# Altium footprint library Диоды-mm.PcbLib: 56 footprints (part 3 of 4)
Each footprint in its own frame and in the unit in brackets; x right, y up, seen from the top. Pads: shape width x height; smd on the part's side, far side on the other; paste and mask are expansions set on the pad; w line width, h text height; cw(c..) or ccw(c..) is an arc to the next point about the centre after c.
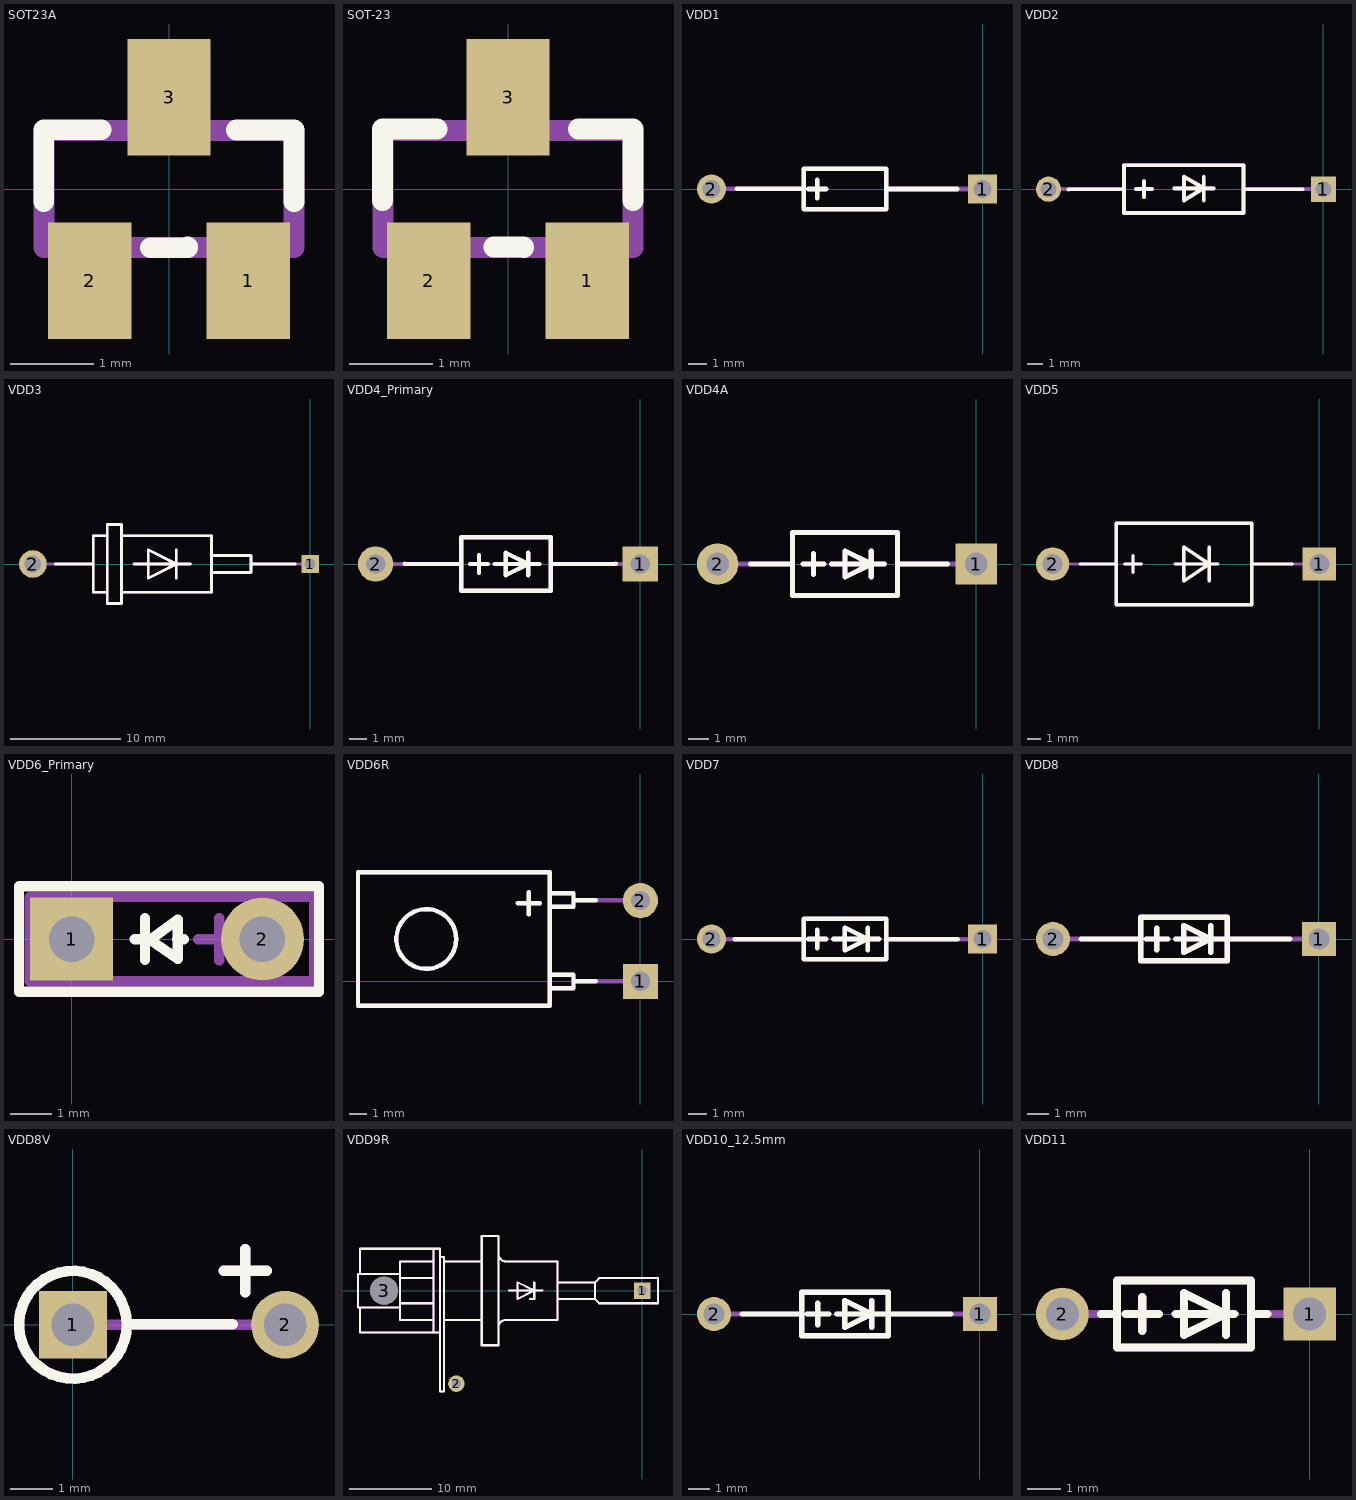
[diagram p2: the footprints below, top view; thin cyan lines are the x and y axes]

## SOT23A [mm]
pads (3):
  rect 1x1.4 smd: 1(0.95,-1.1) 2(-0.95,-1.1) 3(0,1.1)
Top Overlay:
  lines w0.25: -1.503,-0.15 -1.503,0.064 -1.503,0.711 -0.815,0.711 ; -0.222,-0.705 0.223,-0.705 0.223,-0.694 ; 0.81,0.708 1.498,0.708 1.498,0.061 1.498,-0.153
Mechanical 1:
  lines w0.25: -1.5,-0.7 1.5,-0.7 1.5,0.7 -1.5,0.7 -1.5,-0.7

## SOT-23 [mm]
pads (3):
  rect 1x1.4 smd: 1(0.95,-1.1) 2(-0.95,-1.1) 3(0,1.1)
Top Overlay:
  lines w0.25: -1.506,-0.138 -1.506,0.123 -1.506,0.719 -0.853,0.719 ; -0.171,-0.697 0.185,-0.697 0.185,-0.704 ; 0.845,0.719 1.498,0.719 1.498,0.123 1.498,-0.138
Mechanical 1:
  lines w0.25: -1.5,-0.7 1.5,-0.7 1.5,0.7 -1.5,0.7 -1.5,-0.7

## VDD1 [mm]
pads (2):
  rect 1.6x1.6 hole 1: 1(0,0)
  round 1.6 hole 1: 2(-15,0)
Top Overlay:
  lines w0.25: -13.596,0.004 -9.906,0 ; -9.652,0 -8.636,0 ; -9.144,-0.508 -9.144,0.508 ; -5.334,0 -1.396,0 ; -9.906,-1.118 -5.334,-1.118 -5.334,1.118 -9.906,1.118 -9.906,-1.118
Mechanical 1:
  lines w0.25: -14.999,0.004 -9.906,0 ; -9.652,0 -8.636,0 ; -9.144,-0.508 -9.144,0.508 ; -5.334,0 -0.005,0 ; -9.906,-1.118 -5.334,-1.118 -5.334,1.118 -9.906,1.118 -9.906,-1.118

## VDD2 [mm]
pads (2):
  rect 1.6x1.6 hole 1: 1(0,0)
  round 1.6 hole 1: 2(-17.5,0)
Top Overlay:
  lines w0.25: -16.22,-0.01 -12.7,0 ; -11.938,0 -10.922,0 ; -11.43,-0.508 -11.43,0.508 ; -9.495,0.04 -6.995,0.04 ; -7.62,-0.71 -7.62,0.79 ; -5.08,0 -1.335,-0.005 ; -12.7,-1.524 -5.08,-1.524 -5.08,1.524 -12.7,1.524 -12.7,-1.524 ; -8.87,-0.71 -7.62,0.065 -8.87,0.79 -8.87,-0.71
Mechanical 1:
  lines w0.25: -17.495,0.015 -12.7,0.025 ; -11.938,0.025 -10.922,0.025 ; -11.43,-0.483 -11.43,0.533 ; -9.495,0.065 -6.995,0.065 ; -7.62,-0.685 -7.62,0.815 ; -5.08,0.025 0,0.025 ; -12.7,-1.499 -5.08,-1.499 -5.08,1.549 -12.7,1.549 -12.7,-1.499 ; -8.87,-0.685 -7.62,0.09 -8.87,0.815 -8.87,-0.685

## VDD3 [mm]
pads (2):
  rect 1.6x1.6 hole 1: 1(0,0)
  round 2.5 hole 1.5: 2(-25,0)
Top Overlay:
  lines w0.25: -22.979,0 -19.558,0 ; -18.288,-2.54 -19.558,-2.54 -19.558,2.54 -18.288,2.54 ; -17.018,-2.54 -8.89,-2.54 -8.89,2.54 -17.018,2.54 ; -15.875,0 -10.795,0 ; -12.065,-1.27 -12.065,1.27 ; -8.89,-0.762 -5.334,-0.762 -5.334,0.762 -8.89,0.762 ; -5.334,0 -1.337,0 ; -18.288,-3.556 -18.288,3.556 -17.018,3.556 -17.018,-3.556 -18.288,-3.556 ; -14.605,-1.27 -12.065,0 -14.605,1.27 -14.605,-1.27
Mechanical 1:
  lines w0.25: -25.005,0 -19.558,0 ; -18.288,-2.54 -19.558,-2.54 -19.558,2.54 -18.288,2.54 ; -17.018,-2.54 -8.89,-2.54 -8.89,2.54 -17.018,2.54 ; -15.875,0 -10.795,0 ; -12.065,-1.27 -12.065,1.27 ; -8.89,-0.762 -5.334,-0.762 -5.334,0.762 -8.89,0.762 ; -5.334,0 -0.001,0 ; -18.288,-3.556 -18.288,3.556 -17.018,3.556 -17.018,-3.556 -18.288,-3.556 ; -14.605,-1.27 -12.065,0 -14.605,1.27 -14.605,-1.27

## VDD4_Primary [mm]
pads (2):
  rect 2x2 hole 1.1: 1(0,0)
  round 2 hole 1.1: 2(-15,0)
Top Overlay:
  lines w0.25: -13.358,0.005 -10.16,0 ; -9.652,0 -8.636,0 ; -9.144,-0.508 -9.144,0.508 ; -8.255,0 -5.715,0 ; -6.35,-0.635 -6.35,0.635 ; -5.08,0 -1.392,0.005 ; -10.16,-1.524 -5.08,-1.524 -5.08,1.524 -10.16,1.524 -10.16,-1.524 ; -7.62,-0.635 -6.35,0 -7.62,0.635 -7.62,-0.635
Mechanical 1:
  lines w0.25: -15.006,0.001 -10.16,0 ; -9.652,0 -8.636,0 ; -9.144,-0.508 -9.144,0.508 ; -8.255,0 -5.715,0 ; -6.35,-0.635 -6.35,0.635 ; -5.08,0 0,0.005 ; -10.16,-1.524 -5.08,-1.524 -5.08,1.524 -10.16,1.524 -10.16,-1.524 ; -7.62,-0.635 -6.35,0 -7.62,0.635 -7.62,-0.635

## VDD4A [mm]
pads (2):
  rect 2x2 hole 1.1: 1(0,0)
  round 2 hole 1.1: 2(-12.5,0)
Top Overlay:
  lines w0.25: -10.922,0 -8.89,0 ; -8.382,0 -7.366,0 ; -7.874,-0.508 -7.874,0.508 ; -6.985,0 -4.445,0 ; -5.08,-0.635 -5.08,0.635 ; -3.81,0 -1.39,0 ; -8.89,-1.524 -3.81,-1.524 -3.81,1.524 -8.89,1.524 -8.89,-1.524 ; -6.35,-0.635 -5.08,0 -6.35,0.635 -6.35,-0.635
Mechanical 1:
  lines w0.25: -12.501,-0.003 -8.89,0 ; -8.382,0 -7.366,0 ; -7.874,-0.508 -7.874,0.508 ; -6.985,0 -4.445,0 ; -5.08,-0.635 -5.08,0.635 ; -3.81,0 0.002,0 ; -8.89,-1.524 -3.81,-1.524 -3.81,1.524 -8.89,1.524 -8.89,-1.524 ; -6.35,-0.635 -5.08,0 -6.35,0.635 -6.35,-0.635

## VDD5 [mm]
pads (2):
  rect 2.5x2.5 hole 1.5: 1(0,0)
  round 2.5 hole 1.5: 2(-20,0)
Top Overlay:
  lines w0.25: -17.922,0 -15.24,0 ; -14.605,0 -13.335,0 ; -13.97,-0.635 -13.97,0.635 ; -10.795,0 -7.62,0 ; -8.255,-1.27 -8.255,1.27 ; -5.08,0 -2.037,-0.004 ; -15.24,-3.048 -5.08,-3.048 -5.08,3.048 -15.24,3.048 -15.24,-3.048 ; -10.16,-1.27 -8.255,0 -10.16,1.27 -10.16,-1.27
Mechanical 1:
  lines w0.25: -20.006,0 -15.24,0 ; -14.605,0 -13.335,0 ; -13.97,-0.635 -13.97,0.635 ; -10.795,0 -7.62,0 ; -8.255,-1.27 -8.255,1.27 ; -5.08,0 -0.003,0 ; -15.24,-3.048 -5.08,-3.048 -5.08,3.048 -15.24,3.048 -15.24,-3.048 ; -10.16,-1.27 -8.255,0 -10.16,1.27 -10.16,-1.27

## VDD6_Primary [mm]
pads (2):
  rect 2x2 hole 1.1: 1(0,0)
  round 2 hole 1.1: 2(4.6,0)
Top Overlay:
  lines w0.25: 1.517,0.001 1.745,0.001 ; 1.769,-0.493 1.769,0.506 ; 2.549,-0.002 2.703,-0.002 ; -1.27,-1.265 3.725,-1.265 5.964,-1.265 5.964,1.271 -1.27,1.271 -1.27,-1.265 ; 1.893,-0.011 2.554,-0.472 2.554,0.465 1.893,-0.011
Mechanical 1:
  lines w0.25: 3.048,0 4.064,0 ; 3.556,-0.508 3.556,0.508 ; -1.016,-1.016 5.842,-1.016 5.842,1.016 -1.016,1.016 -1.016,-1.016

## VDD6R [mm]
pads (2):
  rect 2x2 hole 1.1: 1(0,0)
  round 2 hole 1.1: 2(0,4.6)
Top Overlay:
  circle w0.25: c-12.192,2.413 r1.702
  lines w0.25: -6.985,4.445 -5.715,4.445 ; -6.35,3.81 -6.35,5.08 ; -5.156,-0.381 -3.81,-0.381 -3.81,0.381 -5.156,0.381 ; -5.156,4.245 -3.81,4.245 -3.81,5.007 -5.156,5.007 ; -3.81,0 -2.54,0 ; -3.81,4.626 -2.54,4.626 ; -16.078,-1.397 -5.156,-1.397 -5.156,6.223 -16.078,6.223 -16.078,-1.397
Mechanical 1:
  circle w0.25: c-12.192,2.413 r1.702
  lines w0.25: -6.985,4.445 -5.715,4.445 ; -6.35,3.81 -6.35,5.08 ; -5.156,-0.381 -3.81,-0.381 -3.81,0.381 -5.156,0.381 ; -5.156,4.245 -3.81,4.245 -3.81,5.007 -5.156,5.007 ; -3.81,0 -2.54,0 -0.7,0 ; -3.81,4.626 -2.54,4.626 ; -2.543,4.623 -0.68,4.63 ; -16.078,-1.397 -5.156,-1.397 -5.156,6.223 -16.078,6.223 -16.078,-1.397

## VDD7 [mm]
pads (2):
  rect 1.6x1.6 hole 1: 1(0,0)
  round 1.6 hole 1: 2(-15,0)
Top Overlay:
  lines w0.25: -13.714,-0.001 -9.906,0 ; -9.652,0 -8.636,0 ; -9.144,-0.508 -9.144,0.508 ; -8.255,0 -5.715,0 ; -6.35,-0.635 -6.35,0.635 ; -5.334,0 -1.361,-0.004 ; -9.906,-1.118 -5.334,-1.118 -5.334,1.118 -9.906,1.118 -9.906,-1.118 ; -7.62,-0.635 -7.62,0.635 -6.35,0 -7.62,-0.635
Mechanical 1:
  lines w0.25: -15.003,-0.004 -9.906,0 ; -9.652,0 -8.636,0 ; -9.144,-0.508 -9.144,0.508 ; -8.255,0 -5.715,0 ; -6.35,-0.635 -6.35,0.635 ; -5.334,0 0,-0.004 ; -9.906,-1.118 -5.334,-1.118 -5.334,1.118 -9.906,1.118 -9.906,-1.118 ; -7.62,-0.635 -7.62,0.635 -6.35,0 -7.62,-0.635

## VDD8 [mm]
pads (2):
  rect 1.6x1.6 hole 1: 1(0,0)
  round 1.6 hole 1: 2(-12.5,0)
Top Overlay:
  lines w0.25: -11.187,0 -8.382,0 ; -8.128,0 -7.112,0 ; -7.62,-0.508 -7.62,0.508 ; -6.731,0 -6.35,0 -4.445,0 ; -5.08,-0.635 -5.08,0.635 ; -4.318,0 -1.371,0 ; -8.382,-1.016 -4.318,-1.016 -4.318,1.016 -8.382,1.016 -8.382,-1.016 ; -6.35,-0.635 -5.08,0 -6.35,0.635 -6.35,-0.635
Mechanical 1:
  lines w0.25: -12.503,0 -8.382,0 ; -8.128,0 -7.112,0 ; -7.62,-0.508 -7.62,0.508 ; -6.731,0 -6.35,0 -4.445,0 ; -5.08,-0.635 -5.08,0.635 ; -4.318,0 0,0.006 ; -8.382,-1.016 -4.318,-1.016 -4.318,1.016 -8.382,1.016 -8.382,-1.016 ; -6.35,-0.635 -5.08,0 -6.35,0.635 -6.35,-0.635

## VDD8V [mm]
pads (2):
  rect 1.6x1.6 hole 1: 1(0,0)
  round 1.6 hole 1: 2(5,0)
Top Overlay:
  circle w0.25: c0,0 r1.27
  lines w0.25: 1.266,0.008 3.761,0.008 ; 3.556,1.27 4.572,1.27 ; 4.064,0.762 4.064,1.778
Mechanical 1:
  circle w0.25: c0,0 r1.27
  lines w0.25: 0,0 4.5,0 ; 3.556,1.27 4.572,1.27 ; 4.064,0.762 4.064,1.778

## VDD9R [mm]
pads (3):
  rect 2x2 hole 1.1: 1(0,0)
  round 2 hole 1.1: 2(-22.5,-11.25)
  round 3.4 hole 3.4 unplated: 3(-31.25,0)
Top Overlay:
  lines w0.25: -34.163,-2.032 -34.163,-5.08 -25.273,-5.08 ; -34.163,2.032 -34.163,5.08 -25.273,5.08 ; -29.337,-1.524 -25.273,-1.524 ; -29.337,1.524 -25.273,1.524 ; -24.003,-3.556 -19.431,-3.556 ; -24.003,3.556 -19.431,3.556 ; -17.399,-4.573 cw(c-16.51,-4.445) -16.382,-3.556 ; -17.399,4.573 ccw(c-16.51,4.445) -16.382,3.556 ; -16.383,-3.556 -10.287,-3.556 -10.287,3.556 -16.383,3.556 ; -16.129,0 -12.065,0 ; -13.589,-1.016 -13.081,-1.016 -13.081,1.016 ; -10.287,-1.016 -5.715,-1.016 ; -10.287,1.016 -5.715,1.016 ; 0.67,-0.011 cw(c-0.007,0) 0.67,0 ; -29.337,-2.032 -34.417,-2.032 -34.417,2.032 -29.337,2.032 ; -29.337,-2.032 -29.337,-3.556 -25.273,-3.556 -25.273,3.556 -29.337,3.556 -29.337,2.032 ; -29.337,-2.032 -29.337,2.032 ; -25.273,-5.08 -25.273,5.08 ; -25.273,-5.08 -24.511,-5.08 -24.511,5.08 -25.273,5.08 ; -19.431,-3.556 -19.431,3.556 ; -19.431,-3.556 -19.431,-6.604 -17.399,-6.604 -17.399,6.604 -19.431,6.604 -19.431,3.556 ; -5.715,-1.016 -5.715,1.016 ; -5.715,-1.016 -5.207,-1.524 1.905,-1.524 1.905,1.524 -5.207,1.524 -5.715,1.016 ; -24.511,-12.192 -24.511,3.556 -24.511,4.064 -24.003,4.064 -24.003,-12.192 -24.511,-12.192 ; -15.113,-1.016 -13.081,0 -15.113,1.016 -15.113,-1.016
Mechanical 1:
  lines w0.25: -34.163,-2.032 -34.163,-5.08 -25.273,-5.08 ; -34.163,2.032 -34.163,5.08 -25.273,5.08 ; -29.337,-1.524 -25.273,-1.524 ; -29.337,1.524 -25.273,1.524 ; -24.003,-3.556 -19.431,-3.556 ; -24.003,3.556 -19.431,3.556 ; -17.399,-4.573 cw(c-16.51,-4.445) -16.382,-3.556 ; -17.399,4.573 ccw(c-16.51,4.445) -16.382,3.556 ; -16.383,-3.556 -10.287,-3.556 -10.287,3.556 -16.383,3.556 ; -16.129,0 -12.065,0 ; -13.589,-1.016 -13.081,-1.016 -13.081,1.016 ; -10.287,-1.016 -5.715,-1.016 ; -10.287,1.016 -5.715,1.016 ; 0.67,-0.011 cw(c-0.007,0) 0.67,0 ; -29.337,-2.032 -34.417,-2.032 -34.417,2.032 -29.337,2.032 ; -29.337,-2.032 -29.337,-3.556 -25.273,-3.556 -25.273,3.556 -29.337,3.556 -29.337,2.032 ; -29.337,-2.032 -29.337,2.032 ; -25.273,-5.08 -25.273,5.08 ; -25.273,-5.08 -24.511,-5.08 -24.511,5.08 -25.273,5.08 ; -19.431,-3.556 -19.431,3.556 ; -19.431,-3.556 -19.431,-6.604 -17.399,-6.604 -17.399,6.604 -19.431,6.604 -19.431,3.556 ; -5.715,-1.016 -5.715,1.016 ; -5.715,-1.016 -5.207,-1.524 1.905,-1.524 1.905,1.524 -5.207,1.524 -5.715,1.016 ; -24.511,-12.192 -24.511,3.556 -24.511,4.064 -24.003,4.064 -24.003,-12.192 -24.511,-12.192 ; -15.113,-1.016 -13.081,0 -15.113,1.016 -15.113,-1.016

## VDD10_12.5mm [mm]
pads (2):
  rect 1.6x1.6 hole 1: 1(0,0)
  round 1.6 hole 1: 2(-12.5,0)
Top Overlay:
  lines w0.25: -11.187,0 -8.382,0 ; -8.128,0 -7.112,0 ; -7.62,-0.508 -7.62,0.508 ; -6.731,0 -6.35,0 -4.445,0 ; -5.08,-0.635 -5.08,0.635 ; -4.318,0 -1.371,0 ; -8.382,-1.016 -4.318,-1.016 -4.318,1.016 -8.382,1.016 -8.382,-1.016 ; -6.35,-0.635 -5.08,0 -6.35,0.635 -6.35,-0.635
Mechanical 1:
  lines w0.25: -12.503,0 -8.382,0 ; -8.128,0 -7.112,0 ; -7.62,-0.508 -7.62,0.508 ; -6.731,0 -6.35,0 -4.445,0 ; -5.08,-0.635 -5.08,0.635 ; -4.318,0 0,0.006 ; -8.382,-1.016 -4.318,-1.016 -4.318,1.016 -8.382,1.016 -8.382,-1.016 ; -6.35,-0.635 -5.08,0 -6.35,0.635 -6.35,-0.635

## VDD11 [mm]
pads (2):
  rect 1.6x1.6 hole 1: 1(0,0)
  round 1.6 hole 1: 2(-7.5,0)
Top Overlay:
  lines w0.25: -6.328,-0.001 -5.842,0 ; -5.588,0 -4.572,0 ; -5.08,-0.508 -5.08,0.508 ; -4.064,0 -2.286,0 ; -2.54,-0.635 -2.54,0.635 ; -1.778,0 -1.284,-0.001 ; -5.842,-1.016 -1.778,-1.016 -1.778,1.016 -5.842,1.016 -5.842,-1.016 ; -3.81,-0.635 -2.54,0 -3.81,0.635 -3.81,-0.635
Mechanical 1:
  lines w0.25: -7.499,-0.001 -5.842,0 ; -5.588,0 -4.572,0 ; -5.08,-0.508 -5.08,0.508 ; -4.064,0 -2.286,0 ; -2.54,-0.635 -2.54,0.635 ; -1.778,0 0.001,-0.001 ; -5.842,-1.016 -1.778,-1.016 -1.778,1.016 -5.842,1.016 -5.842,-1.016 ; -3.81,-0.635 -2.54,0 -3.81,0.635 -3.81,-0.635